# Altium schematic symbol library iMX8m Library.SchLib: 4 symbols
Pins are listed as number, name and electrical type; pins without a type are passive.

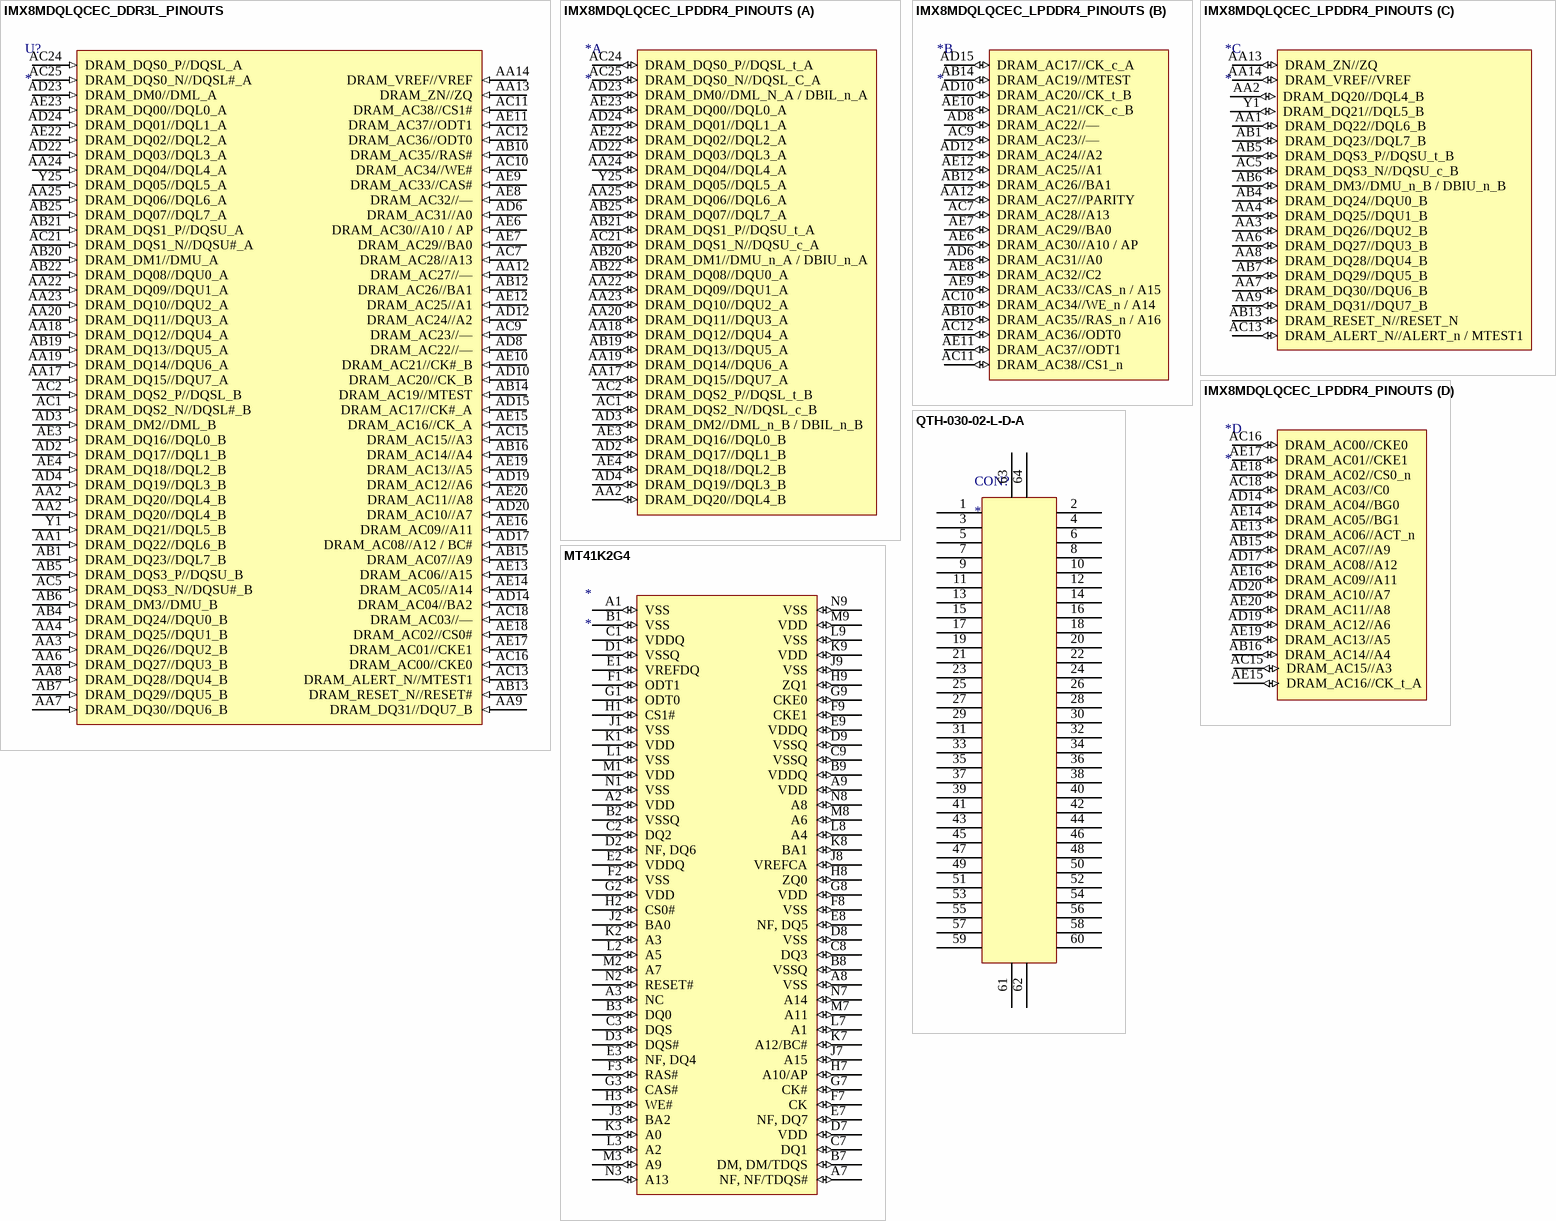
[diagram p0: symbols IMX8MDQLQCEC_DDR3L_PINOUTS to QTH-030-02-L-D-A]

## IMX8MDQLQCEC_DDR3L_PINOUTS
designator U?
pins: AA1 DRAM_DQ22//DQL6_B (in), AA2 DRAM_DQ20//DQL4_B (in), AA2 DRAM_DQ20//DQL4_B (in), AA3 DRAM_DQ26//DQU2_B (in), AA4 DRAM_DQ25//DQU1_B (in), AA6 DRAM_DQ27//DQU3_B (in), AA7 DRAM_DQ30//DQU6_B (in), AA8 DRAM_DQ28//DQU4_B (in), AA9 DRAM_DQ31//DQU7_B (in), AA12 DRAM_AC27//— (in), AA13 DRAM_ZN//ZQ (in), AA14 DRAM_VREF//VREF (in), AA17 DRAM_DQ15//DQU7_A (in), AA18 DRAM_DQ12//DQU4_A (in), AA19 DRAM_DQ14//DQU6_A (in), AA20 DRAM_DQ11//DQU3_A (in), AA22 DRAM_DQ09//DQU1_A (in), AA23 DRAM_DQ10//DQU2_A (in), AA24 DRAM_DQ04//DQL4_A (in), AA25 DRAM_DQ06//DQL6_A (in), AB1 DRAM_DQ23//DQL7_B (in), AB4 DRAM_DQ24//DQU0_B (in), AB5 DRAM_DQS3_P//DQSU_B (in), AB6 DRAM_DM3//DMU_B (in), AB7 DRAM_DQ29//DQU5_B (in), AB10 DRAM_AC35//RAS# (in), AB12 DRAM_AC26//BA1 (in), AB13 DRAM_RESET_N//RESET# (in), AB14 DRAM_AC19//MTEST (in), AB15 DRAM_AC07//A9 (in), AB16 DRAM_AC14//A4 (in), AB19 DRAM_DQ13//DQU5_A (in), AB20 DRAM_DM1//DMU_A (in), AB21 DRAM_DQS1_P//DQSU_A (in), AB22 DRAM_DQ08//DQU0_A (in), AB25 DRAM_DQ07//DQL7_A (in), AC1 DRAM_DQS2_N//DQSL#_B (in), AC2 DRAM_DQS2_P//DQSL_B (in), AC5 DRAM_DQS3_N//DQSU#_B (in), AC7 DRAM_AC28//A13 (in), AC9 DRAM_AC23//— (in), AC10 DRAM_AC34//WE# (in), AC11 DRAM_AC38//CS1# (in), AC12 DRAM_AC36//ODT0 (in), AC13 DRAM_ALERT_N//MTEST1 (in), AC15 DRAM_AC15//A3 (in), AC16 DRAM_AC00//CKE0 (in), AC18 DRAM_AC03//— (in), AC21 DRAM_DQS1_N//DQSU#_A (in), AC24 DRAM_DQS0_P//DQSL_A (in), AC25 DRAM_DQS0_N//DQSL#_A (in), AD2 DRAM_DQ17//DQL1_B (in), AD3 DRAM_DM2//DML_B (in), AD4 DRAM_DQ19//DQL3_B (in), AD6 DRAM_AC31//A0 (in), AD8 DRAM_AC22//— (in), AD10 DRAM_AC20//CK_B (in), AD12 DRAM_AC24//A2 (in), AD14 DRAM_AC04//BA2 (in), AD15 DRAM_AC17//CK#_A (in), AD17 DRAM_AC08//A12 / BC# (in), AD19 DRAM_AC12//A6 (in), AD20 DRAM_AC10//A7 (in), AD22 DRAM_DQ03//DQL3_A (in), AD23 DRAM_DM0//DML_A (in), AD24 DRAM_DQ01//DQL1_A (in), AE3 DRAM_DQ16//DQL0_B (in), AE4 DRAM_DQ18//DQL2_B (in), AE6 DRAM_AC30//A10 / AP (in), AE7 DRAM_AC29//BA0 (in), AE8 DRAM_AC32//— (in), AE9 DRAM_AC33//CAS# (in), AE10 DRAM_AC21//CK#_B (in), AE11 DRAM_AC37//ODT1 (in), AE12 DRAM_AC25//A1 (in), AE13 DRAM_AC06//A15 (in), AE14 DRAM_AC05//A14 (in), AE15 DRAM_AC16//CK_A (in), AE16 DRAM_AC09//A11 (in), AE17 DRAM_AC01//CKE1 (in), AE18 DRAM_AC02//CS0# (in), AE19 DRAM_AC13//A5 (in), AE20 DRAM_AC11//A8 (in), AE22 DRAM_DQ02//DQL2_A (in), AE23 DRAM_DQ00//DQL0_A (in), Y1 DRAM_DQ21//DQL5_B (in), Y25 DRAM_DQ05//DQL5_A (in)

## IMX8MDQLQCEC_LPDDR4_PINOUTS
designator *
part A pins: AA2 DRAM_DQ20//DQL4_B (io), AA17 DRAM_DQ15//DQU7_A (io), AA18 DRAM_DQ12//DQU4_A (io), AA19 DRAM_DQ14//DQU6_A (io), AA20 DRAM_DQ11//DQU3_A (io), AA22 DRAM_DQ09//DQU1_A (io), AA23 DRAM_DQ10//DQU2_A (io), AA24 DRAM_DQ04//DQL4_A (io), AA25 DRAM_DQ06//DQL6_A (io), AB19 DRAM_DQ13//DQU5_A (io), AB20 DRAM_DM1//DMU_n_A / DBIU_n_A (io), AB21 DRAM_DQS1_P//DQSU_t_A (io), AB22 DRAM_DQ08//DQU0_A (io), AB25 DRAM_DQ07//DQL7_A (io), AC1 DRAM_DQS2_N//DQSL_c_B (io), AC2 DRAM_DQS2_P//DQSL_t_B (io), AC21 DRAM_DQS1_N//DQSU_c_A (io), AC24 DRAM_DQS0_P//DQSL_t_A (io), AC25 DRAM_DQS0_N//DQSL_C_A (io), AD2 DRAM_DQ17//DQL1_B (io), AD3 DRAM_DM2//DML_n_B / DBIL_n_B (io), AD4 DRAM_DQ19//DQL3_B (io), AD22 DRAM_DQ03//DQL3_A (io), AD23 DRAM_DM0//DML_N_A / DBIL_n_A (io), AD24 DRAM_DQ01//DQL1_A (io), AE3 DRAM_DQ16//DQL0_B (io), AE4 DRAM_DQ18//DQL2_B (io), AE22 DRAM_DQ02//DQL2_A (io), AE23 DRAM_DQ00//DQL0_A (io), Y25 DRAM_DQ05//DQL5_A (io)
part B pins: AA12 DRAM_AC27//PARITY (io), AB10 DRAM_AC35//RAS_n / A16 (io), AB12 DRAM_AC26//BA1 (io), AB14 DRAM_AC19//MTEST (io), AC7 DRAM_AC28//A13 (io), AC9 DRAM_AC23//— (io), AC10 DRAM_AC34//WE_n / A14 (io), AC11 DRAM_AC38//CS1_n (io), AC12 DRAM_AC36//ODT0 (io), AD6 DRAM_AC31//A0 (io), AD8 DRAM_AC22//— (io), AD10 DRAM_AC20//CK_t_B (io), AD12 DRAM_AC24//A2 (io), AD15 DRAM_AC17//CK_c_A (io), AE6 DRAM_AC30//A10 / AP (io), AE7 DRAM_AC29//BA0 (io), AE8 DRAM_AC32//C2 (io), AE9 DRAM_AC33//CAS_n / A15 (io), AE10 DRAM_AC21//CK_c_B (io), AE11 DRAM_AC37//ODT1 (io), AE12 DRAM_AC25//A1 (io)
part C pins: AA1 DRAM_DQ22//DQL6_B (io), AA2 DRAM_DQ20//DQL4_B (io), AA3 DRAM_DQ26//DQU2_B (io), AA4 DRAM_DQ25//DQU1_B (io), AA6 DRAM_DQ27//DQU3_B (io), AA7 DRAM_DQ30//DQU6_B (io), AA8 DRAM_DQ28//DQU4_B (io), AA9 DRAM_DQ31//DQU7_B (io), AA13 DRAM_ZN//ZQ (io), AA14 DRAM_VREF//VREF (io), AB1 DRAM_DQ23//DQL7_B (io), AB4 DRAM_DQ24//DQU0_B (io), AB5 DRAM_DQS3_P//DQSU_t_B (io), AB6 DRAM_DM3//DMU_n_B / DBIU_n_B (io), AB7 DRAM_DQ29//DQU5_B (io), AB13 DRAM_RESET_N//RESET_N (io), AC5 DRAM_DQS3_N//DQSU_c_B (io), AC13 DRAM_ALERT_N//ALERT_n / MTEST1 (io), Y1 DRAM_DQ21//DQL5_B (io)
part D pins: AB15 DRAM_AC07//A9 (io), AB16 DRAM_AC14//A4 (io), AC15 DRAM_AC15//A3 (io), AC16 DRAM_AC00//CKE0 (io), AC18 DRAM_AC03//C0 (io), AD14 DRAM_AC04//BG0 (io), AD17 DRAM_AC08//A12 (io), AD19 DRAM_AC12//A6 (io), AD20 DRAM_AC10//A7 (io), AE13 DRAM_AC06//ACT_n (io), AE14 DRAM_AC05//BG1 (io), AE15 DRAM_AC16//CK_t_A (io), AE16 DRAM_AC09//A11 (io), AE17 DRAM_AC01//CKE1 (io), AE18 DRAM_AC02//CS0_n (io), AE19 DRAM_AC13//A5 (io), AE20 DRAM_AC11//A8 (io)

## MT41K2G4
designator *
pins: A1 VSS (io), A2 VDD (io), A3 NC (io), A7 NF, NF/TDQS# (io), A8 VSS (io), A9 VDD (io), B1 VSS (io), B2 VSSQ (io), B3 DQ0 (io), B7 DM, DM/TDQS (io), B8 VSSQ (io), B9 VDDQ (io), C1 VDDQ (io), C2 DQ2 (io), C3 DQS (io), C7 DQ1 (io), C8 DQ3 (io), C9 VSSQ (io), D1 VSSQ (io), D2 NF, DQ6 (io), D3 DQS# (io), D7 VDD (io), D8 VSS (io), D9 VSSQ (io), E1 VREFDQ (io), E2 VDDQ (io), E3 NF, DQ4 (io), E7 NF, DQ7 (io), E8 NF, DQ5 (io), E9 VDDQ (io), F1 ODT1 (io), F2 VSS (io), F3 RAS# (io), F7 CK (io), F8 VSS (io), F9 CKE1 (io), G1 ODT0 (io), G2 VDD (io), G3 CAS# (io), G7 CK# (io), G8 VDD (io), G9 CKE0 (io), H1 CS1# (io), H2 CS0# (io), H3 WE# (io), H7 A10/AP (io), H8 ZQ0 (io), H9 ZQ1 (io), J1 VSS (io), J2 BA0 (io), J3 BA2 (io), J7 A15 (io), J8 VREFCA (io), J9 VSS (io), K1 VDD (io), K2 A3 (io), K3 A0 (io), K7 A12/BC# (io), K8 BA1 (io), K9 VDD (io), L1 VSS (io), L2 A5 (io), L3 A2 (io), L7 A1 (io), L8 A4 (io), L9 VSS (io), M1 VDD (io), M2 A7 (io), M3 A9 (io), M7 A11 (io), M8 A6 (io), M9 VDD (io), N1 VSS (io), N2 RESET# (io), N3 A13 (io), N7 A14 (io), N8 A8 (io), N9 VSS (io)

## QTH-030-02-L-D-A
designator CON?
pins: 1, 2, 3, 4, 5, 6, 7, 8, 9, 10, 11, 12, 13, 14, 15, 16, 17, 18, 19, 20, 21, 22, 23, 24, 25, 26, 27, 28, 29, 30, 31, 32, 33, 34, 35, 36, 37, 38, 39, 40, 41, 42, 43, 44, 45, 46, 47, 48, 49, 50, 51, 52, 53, 54, 55, 56, 57, 58, 59, 60, 61, 62, 63, 64